# EAGLE library part HCPL0730 (library optocoupler)
OPTO COUPLER
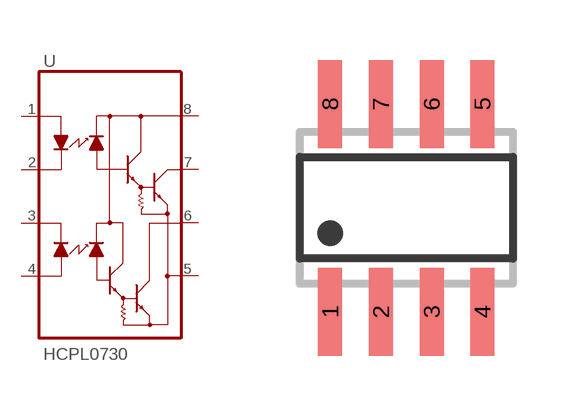
[diagram p40: symbol with the pads of SO08; footprint SO08]

Designator prefix U

## HCPL0730  [SO08]
1  VF1+  pas
2  VF1-  pas
3  VF2-  pas
4  VF2+  pas
5  GND  pas
6  VO2  pas
7  V01  pas
8  VCC  pas

## Footprint SO08 (pad centres in mm)
SMALL OUTLINE INTEGRATED CIRCUIT body 3.9 mm/JEDEC MS-012AA
smd 0.6 x 2.2: 1 -1.905,-2.6; 2 -0.635,-2.6; 3 0.635,-2.6; 4 1.905,-2.6; 5 1.905,2.6; 6 0.635,2.6; 7 -0.635,2.6; 8 -1.905,2.6